# Altium schematic symbol library FT234XD.SchLib: 1 symbol
Pins are listed as number, name and electrical type; pins without a type are passive.

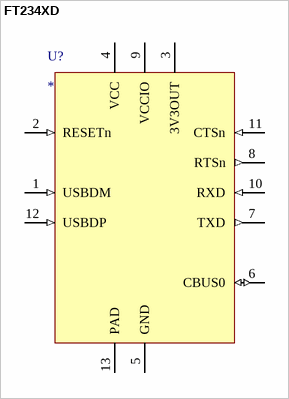
[diagram p0: symbol FT234XD]

## FT234XD
designator U?
USB to Basic UART in 12-pin DFN
pins: 1 USBDM (in), 2 RESETn (in), 3 3V3OUT (power), 4 VCC (power), 5 GND (power), 6 CBUS0 (io), 7 TXD (out), 8 RTSn (out), 9 VCCIO (power), 10 RXD (in), 11 CTSn (in), 12 USBDP (in), 13 PAD (power)